# Altium schematic symbol library B-NT_CONNECT.SchLib: 107 symbols (part 1 of 2)
Pins are listed as number, name and electrical type; pins without a type are passive.

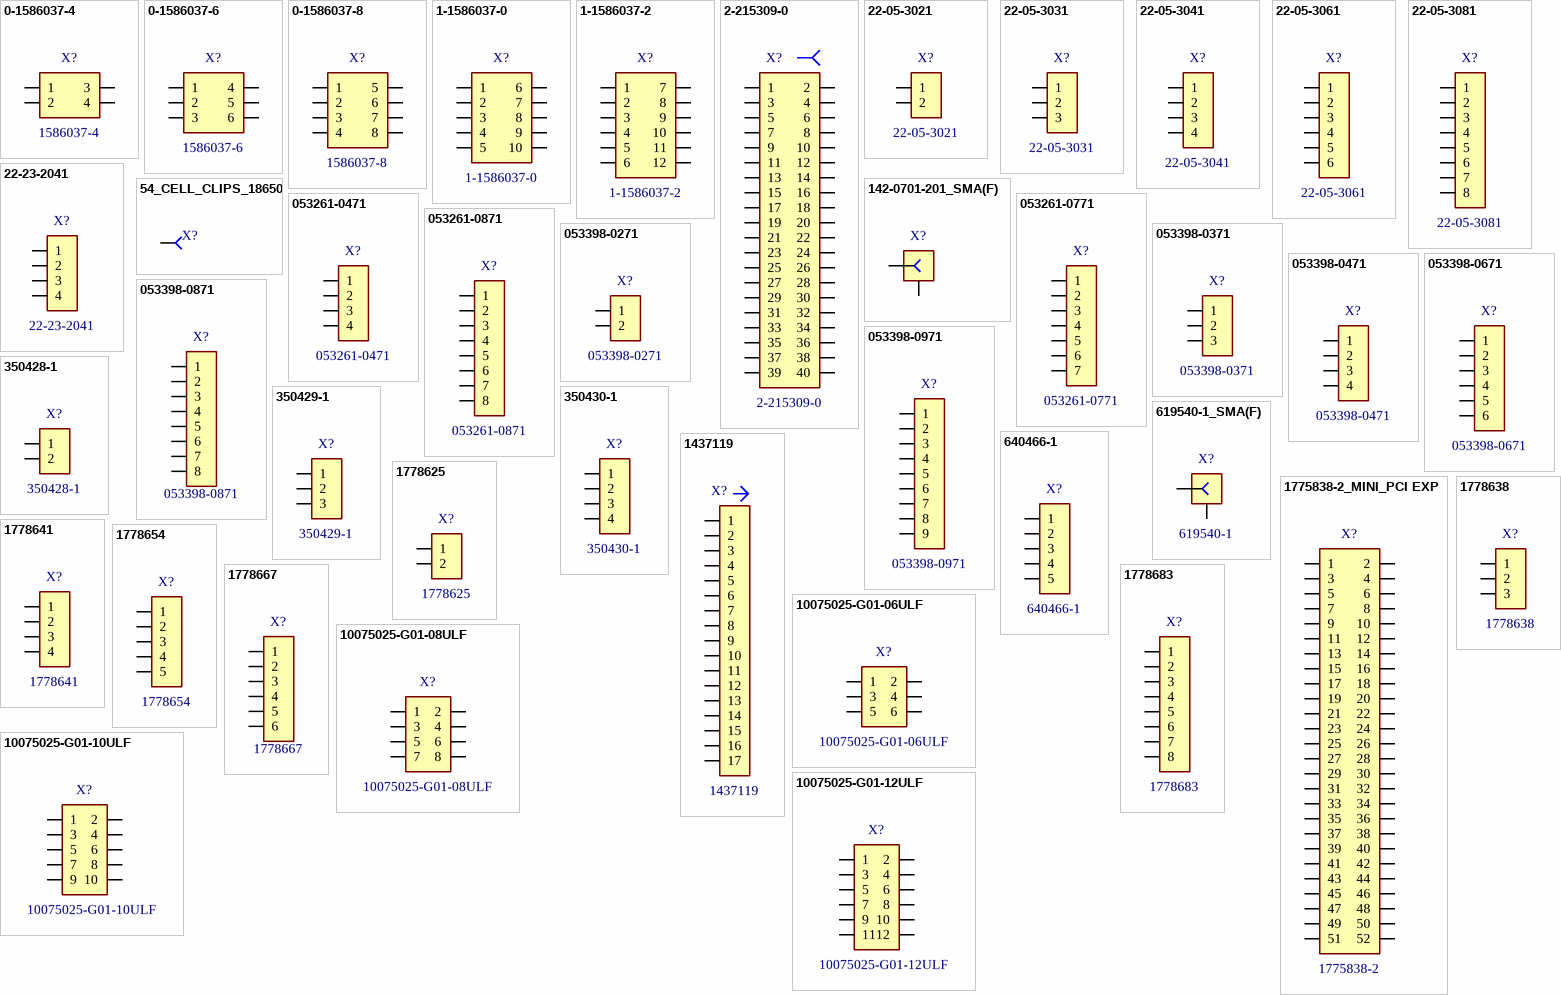
[diagram p0: symbols 0-1586037-4 to 10075025-G01-12ULF]

## 0-1586037-4
designator X?  value 1586037-4
TE HEADER 4POS VERT W/O PEGS; ValueManufacturer: TE Connectivity AMP Connectors; TechSpec: Шаг 4.2; ValueDescription: 1586037-4 Двухрядная вилка TE Connectivity AMP Connectors  9.75х9.6mm  Шаг 4.2; ValueType: Connector; Price: 0.56; ComponentLink1Description: TE Datasheet; ComponentLink1URL: http://www.te.com/commerce/DocumentDelivery/DDEController?Action=srchrtrv&DocNm=1586037&DocType=Customer+Drawing&DocLang=English; Package: 9.75х9.6mm; ValueManufacturerPartNumber: 1586037-4; Operating Temperature: -40°C ~ 105°C; CheckDate: SC 22.01.17
footprint 0-1586037-4
pins: 1, 2, 3, 4

## 0-1586037-6
designator X?  value 1586037-6
TE HEADER 6POS VERT W/O PEGS; ValueManufacturer: TE Connectivity AMP Connectors; TechSpec: Шаг 4.2; ValueDescription: 1586037-6 Двухрядная вилка TE Connectivity AMP Connectors  9.75х13.8mm  Шаг 4.2; ValueType: Connector; Price: 0.59; ComponentLink1Description: TE Datasheet; ComponentLink1URL: http://www.te.com/commerce/DocumentDelivery/DDEController?Action=srchrtrv&DocNm=1586037&DocType=Customer+Drawing&DocLang=English; Package: 9.75х13.8mm; ValueManufacturerPartNumber: 1586037-6; Operating Temperature: -40°C ~ 105°C; CheckDate: SC 22.01.17
footprint 0-1586037-6
pins: 1, 2, 3, 4, 5, 6

## 0-1586037-8
designator X?  value 1586037-8
TE HEADER 8POS VERT W/O PEGS; ValueManufacturer: TE Connectivity AMP Connectors; TechSpec: Шаг 4.2; ValueDescription: 1586037-8 Двухрядная вилка TE Connectivity AMP Connectors  9.75х18.0mm  Шаг 4.2; ValueType: Connector; Price: 0.71; ComponentLink1Description: TE Datasheet; ComponentLink1URL: http://www.te.com/commerce/DocumentDelivery/DDEController?Action=srchrtrv&DocNm=1586037&DocType=Customer+Drawing&DocLang=English; Package: 9.75х18.0mm; ValueManufacturerPartNumber: 1586037-8; Operating Temperature: -40°C ~ 105°C; CheckDate: SC 22.01.17
footprint 0-1586037-8
pins: 1, 2, 3, 4, 5, 6, 7, 8

## 1-1586037-0
designator X?  value 1-1586037-0
TE HEADER 10POS VERT W/O PEGS; ValueManufacturer: TE Connectivity AMP Connectors; TechSpec: Шаг 4.2; ValueDescription: 1-1586037-0 Двухрядная вилка TE Connectivity AMP Connectors  9.75х22.2mm  Шаг 4.2; ValueType: Connector; Price: 0.79; ComponentLink1Description: TE Datasheet; ComponentLink1URL: http://www.te.com/commerce/DocumentDelivery/DDEController?Action=srchrtrv&DocNm=1586037&DocType=Customer+Drawing&DocLang=English; Package: 9.75х22.2mm; ValueManufacturerPartNumber: 1-1586037-0; Operating Temperature: -40°C ~ 105°C; CheckDate: SC 22.01.17
footprint 0-1586037-10
pins: 1, 2, 3, 4, 5, 6, 7, 8, 9, 10

## 1-1586037-2
designator X?  value 1-1586037-2
TE HEADER 12POS VERT W/O PEGS; ValueManufacturer: TE Connectivity AMP Connectors; TechSpec: Шаг 4.2; ValueDescription: 1-1586037-2 Двухрядная вилка TE Connectivity AMP Connectors  9.75х26.4mm  Шаг 4.2; ValueType: Connector; Price: 0.94; ComponentLink1Description: TE Datasheet; ComponentLink1URL: http://www.te.com/commerce/DocumentDelivery/DDEController?Action=srchrtrv&DocNm=1586037&DocType=Customer+Drawing&DocLang=English; Package: 9.75х26.4mm; ValueManufacturerPartNumber: 1-1586037-2; Operating Temperature: -40°C ~ 105°C; CheckDate: SC 22.01.17
footprint 0-1586037-12
pins: 1, 2, 3, 4, 5, 6, 7, 8, 9, 10, 11, 12

## 2-215309-0
designator X?  value 2-215309-0
CONN 40POS FEMALE 2.54 PCB; ValueManufacturer: TE Connectivity AMP Connectors; TechSpec: Шаг 2.54; ValueDescription: 2-215309-0 Двухрядная розетка TE Connectivity AMP Connectors  5.06х50.8mm  Шаг 2.54; ValueType: Connector; Price: 6; ComponentLink1Description: TE Connectivity AMP Connectors  Datasheet; ComponentLink1URL: http://www.te.com/commerce/DocumentDelivery/DDEController?Action=srchrtrv&DocNm=215309&DocType=Customer+Drawing&DocLang=English; Package: 5.06х50.8mm; ValueManufacturerPartNumber: 2-215309-0; CheckDate: SC *
footprint 2-215309-0 (Body 5.06x50.8)
pins: 1, 2, 3, 4, 5, 6, 7, 8, 9, 10, 11, 12, 13, 14, 15, 16, 17, 18, 19, 20, 21, 22, 23, 24, 25, 26, 27, 28, 29, 30, 31, 32, 33, 34, 35, 36, 37, 38, 39, 40
1 alternate drawing of the same symbol

## 22-05-3021
designator X?  value 22-05-3021
TE CONN HEADER 2 POS; ValueManufacturer: Molex LLC; TechSpec: Шаг 2.54; ValueDescription: 22-05-3021 Вилка Molex LLC  5x13mm  Шаг 2.54; ValueType: Connector; Price: 0.32; ComponentLink1Description: Molex LLC Datasheet; ComponentLink1URL: http://www.molex.com/pdm_docs/sd/022053041_sd.pdf; Package: 5x13mm; ValueManufacturerPartNumber: 22-05-3021; CheckDate: SC *
footprint 22-05-3021
pins: 1, 2
1 alternate drawing of the same symbol

## 22-05-3031
designator X?  value 22-05-3031
TE CONN HEADER 3 POS; ValueManufacturer: Molex LLC; TechSpec: Шаг 2.54; ValueDescription: 22-05-3031 Вилка Molex LLC  7.5x13mm  Шаг 2.54; ValueType: Connector; Price: 0.44; ComponentLink1Description: Molex LLC Datasheet; ComponentLink1URL: http://www.molex.com/pdm_docs/sd/022053041_sd.pdf; Package: 7.5x13mm; ValueManufacturerPartNumber: 22-05-3031; CheckDate: SC *
footprint 22-05-3031
pins: 1, 2, 3

## 22-05-3041
designator X?  value 22-05-3041
TE CONN HEADER 4 POS; ValueManufacturer: Molex LLC; TechSpec: Шаг 2.54; ValueDescription: 22-05-3041 Вилка Molex LLC  10x13mm  Шаг 2.54; ValueType: Connector; Price: 0.49; ComponentLink1Description: Molex LLC Datasheet; ComponentLink1URL: http://www.molex.com/pdm_docs/sd/022053041_sd.pdf; Package: 10x13mm; ValueManufacturerPartNumber: 22-05-3041; CheckDate: SC 12.03.17
footprint 22-05-3041
pins: 1, 2, 3, 4

## 22-05-3061
designator X?  value 22-05-3061
TE CONN HEADER 6 POS; ValueManufacturer: Molex LLC; TechSpec: Шаг 2.54; ValueDescription: 22-05-3061 Вилка Molex LLC  15x13mm  Шаг 2.54; ValueType: Connector; Price: 0.65; ComponentLink1Description: Molex LLC Datasheet; ComponentLink1URL: http://www.molex.com/pdm_docs/sd/022053041_sd.pdf; Package: 15x13mm; ValueManufacturerPartNumber: 22-05-3061; CheckDate: SC *
footprint 22-05-3061
pins: 1, 2, 3, 4, 5, 6

## 22-05-3081
designator X?  value 22-05-3081
TE CONN HEADER 8 POS; ValueManufacturer: Molex LLC; TechSpec: Шаг 2.54; ValueDescription: 22-05-3081 Вилка Molex LLC  20x13mm  Шаг 2.54; ValueType: Connector; Price: 0.83; ComponentLink1Description: Molex LLC Datasheet; ComponentLink1URL: http://www.molex.com/pdm_docs/sd/022053041_sd.pdf; Package: 20x13mm; ValueManufacturerPartNumber: 22-05-3081; CheckDate: SC *
footprint 22-05-3081
pins: 1, 2, 3, 4, 5, 6, 7, 8

## 22-23-2041
designator X?  value 22-23-2041
TE CONN HEADER 4POS .100 VERT TIN; ValueManufacturer: Molex LLC; TechSpec: Шаг 2.54; ValueDescription: 22-23-2041 Вилка Molex LLC  10x6.3mm  Шаг 2.54; ValueType: Connector; Price: 0.27; ComponentLink1Description: Molex LLC Datasheet; ComponentLink1URL: https://www.molex.com/pdm_docs/sd/022232041_sd.pdf; Package: 10x6.3mm; ValueManufacturerPartNumber: 22-23-2041; CheckDate: SC *
footprint 22-23-2041 (Footprint not found)
pins: 1, 2, 3, 4

## 54_CELL_CLIPS_18650
designator X?  (no BOM)
18650 CELL BATTERY CLIP 18MM; ValueManufacturer: Keystone Electronics; ValueManufacturerPartNumber: 54; ValueDescription: 54 Держатель батареи 18650; Price: 0.67; ComponentLink1Description: Keystone Electronics Datasheet; ComponentLink1URL: http://www.keyelco.com/product-pdf.cfm?p=826; ValueType: BATTERY CLIP; CheckDate: SC 24.10.17; Value: BATTERY CLIP
footprint 54_BATTERY_CLIP_18650
pins: 1

## 142-0701-201_SMA(F)
designator X?
CONN SMA JACK STR 50 OHM PCB; ValueManufacturer: Cinch Connectivity Solutions Johnson; ValueManufacturerPartNumber: 142-0701-201; TechSpec: MAX 18GHz; ValueDescription: 142-0701-201 Разьем на плату    SMA FEMALE SOCKET  MAX 18GHz; ValueType: SMA FEMALE CONNECTOR; Value: 142-0701-201; Price: 2.79; ComponentLink1Description: Cinch Connectivity Datasheet; ComponentLink1URL: https://belfuse.com/resources/Johnson/drawings/dr-1420701201.pdf; Package: SMA FEMALE SOCKET; Operating Temperature: -65°C~165°C; CheckDate: SC *
footprint 142-0701-201_SMA_PCB (SMA CONN PCB CINCH 142-0701-201)
pins: 1, 2
1 alternate drawing of the same symbol

## 053261-0471
designator X?  value 053261-0471
TE CONN HEADER 4 POS R/A SMD; ValueManufacturer: Molex LLC; TechSpec: Шаг 1.25; ValueDescription: 053261-0471 Вилка Molex LLC    Шаг 1.25; ValueType: Connector; Price: 1.18; ComponentLink1Description: Molex LLC Datasheet; ComponentLink1URL: http://www.molex.com/pdm_docs/sd/532610471_sd.pdf; ValueManufacturerPartNumber: 053261-0471; CheckDate: SC *
footprint 053261-0471
pins: 1, 2, 3, 4

## 053261-0771
designator X?  value 053261-0771
TE CONN HEADER 7 POS R/A SMD; ValueManufacturer: Molex LLC; TechSpec: Шаг 1.25; ValueDescription: 053261-0771 Вилка Molex LLC  14.7x4.2mm  Шаг 1.25; ValueType: Connector; Price: 1.58; ComponentLink1Description: Molex LLC Datasheet; ComponentLink1URL: http://www.molex.com/pdm_docs/sd/532610771_sd.pdf; Package: 14.7x4.2mm; ValueManufacturerPartNumber: 053261-0771; CheckDate: SC *
footprint 053261-0771
pins: 1, 2, 3, 4, 5, 6, 7

## 053261-0871
designator X?  value 053261-0871
TE CONN HEADER 8 POS R/A SMD; ValueManufacturer: Molex LLC; TechSpec: Шаг 1.25; ValueDescription: 053261-0871 Вилка Molex LLC  15.15x4.2mm  Шаг 1.25; ValueType: Connector; Price: 1.56; ComponentLink1Description: Molex LLC Datasheet; ComponentLink1URL: http://www.molex.com/pdm_docs/sd/532610771_sd.pdf; Package: 15.15x4.2mm; ValueManufacturerPartNumber: 053261-0871; CheckDate: SC *
footprint 053261-0871
pins: 1, 2, 3, 4, 5, 6, 7, 8

## 053398-0271
designator X?  value 053398-0271
TE CONN HEADER 4 POS VERT SMD; ValueManufacturer: Molex LLC; TechSpec: Шаг 1.25; ValueDescription: 053398-0271 Вилка Molex LLC    Шаг 1.25; ValueType: Connector; Price: 1.07; ComponentLink1Description: Molex LLC Datasheet; ComponentLink1URL: http://www.molex.com/pdm_docs/sd/533980671_sd.pdf; ValueManufacturerPartNumber: 053398-0271; CheckDate: SC *
footprint 053398-0271
pins: 1, 2
1 alternate drawing of the same symbol

## 053398-0371
designator X?  value 053398-0371
TE CONN HEADER 3 POS VERT SMD; ValueManufacturer: Molex LLC; TechSpec: Шаг 1.25; ValueDescription: 053398-0371 Вилка Molex LLC    Шаг 1.25; ValueType: Connector; Price: 1.30; ComponentLink1Description: Molex LLC Datasheet; ComponentLink1URL: http://www.molex.com/pdm_docs/sd/533980371_sd.pdf; ValueManufacturerPartNumber: 053398-0371; CheckDate: SC *
footprint 053398-0371
pins: 1, 2, 3

## 053398-0471
designator X?  value 053398-0471
TE CONN HEADER 4 POS VERT SMD; ValueManufacturer: Molex LLC; TechSpec: Шаг 1.25; ValueDescription: 053398-0471 Вилка Molex LLC    Шаг 1.25; ValueType: Connector; Price: 1.19; ComponentLink1Description: Molex LLC Datasheet; ComponentLink1URL: http://www.molex.com/pdm_docs/sd/533980671_sd.pdf; ValueManufacturerPartNumber: 053398-0471; CheckDate: SC *
footprint 053398-0471
pins: 1, 2, 3, 4

## 053398-0671
designator X?  value 053398-0671
TE CONN HEADER 6 POS VERT SMD; ValueManufacturer: Molex LLC; TechSpec: Шаг 1.25; ValueDescription: 053398-0671 Вилка Molex LLC  12.25x4.2mm  Шаг 1.25; ValueType: Connector; Price: 1.42; ComponentLink1Description: Molex LLC Datasheet; ComponentLink1URL: http://www.molex.com/pdm_docs/sd/533980671_sd.pdf; Package: 12.25x4.2mm; ValueManufacturerPartNumber: 053398-0671; CheckDate: SC 12.03.17
footprint 053398-0671
pins: 1, 2, 3, 4, 5, 6

## 053398-0871
designator X?  value 053398-0871
TE CONN HEADER 8POS VERT SMD; ValueManufacturer: Molex LLC; ValueManufacturerPartNumber: 0533980871; TechSpec: Шаг 1.25; ValueDescription: 053398-0871 Вилка Molex LLC  14.75x4.3mm  Шаг 1.25; ValueType: Connector; Price: 1.64; ComponentLink1Description: Molex LLC Datasheet; ComponentLink1URL: http://www.molex.com/pdm_docs/sd/533980871_sd.pdf; Package: 14.75x4.3mm; CheckDate: SC *
footprint 053398-0871 (CONN HEADER 8POS 1.25MM VERT SMD)
pins: 1, 2, 3, 4, 5, 6, 7, 8

## 053398-0971
designator X?  value 053398-0971
TE CONN HEADER 9 POS VERT SMD; ValueManufacturer: Molex LLC; TechSpec: Шаг 1.25; ValueDescription: 053398-0971 Вилка Molex LLC  16x4.3mm  Шаг 1.25; ValueType: Connector; Price: 1.64; ComponentLink1Description: Molex LLC Datasheet; ComponentLink1URL: http://www.molex.com/pdm_docs/sd/533980971_sd.pdf; Package: 16x4.3mm; ValueManufacturerPartNumber: 053398-0971; CheckDate: SC 12.03.17
footprint 053398-0971
pins: 1, 2, 3, 4, 5, 6, 7, 8, 9

## 350428-1
designator X?  value 350428-1
TE CONN HEADER 2 POS; ValueManufacturer: TE Connectivity AMP Connectors; TechSpec: Шаг 6.35; ValueDescription: 350428-1 Вилка TE Connectivity AMP Connectors  13.97х7.62mm  Шаг 6.35; ValueType: Connector; Price: 0.43; ComponentLink1Description: TE Datasheet; ComponentLink1URL: http://www.te.com/commerce/DocumentDelivery/DDEController?; Package: 13.97х7.62mm; ValueManufacturerPartNumber: 350428-1; CheckDate: SC 15.01.17
footprint 350428-1
pins: 1, 2
1 alternate drawing of the same symbol

## 350429-1
designator X?  value 350429-1
TE CONN HEADER 3 POS; ValueManufacturer: TE Connectivity AMP Connectors; TechSpec: Шаг 6.35; ValueDescription: 350429-1 Вилка TE Connectivity AMP Connectors  20.32х7.62mm  Шаг 6.35; ValueType: Connector; Price: 0.55; ComponentLink1Description: TE Datasheet; ComponentLink1URL: http://www.te.com/commerce/DocumentDelivery/DDEController?Action=srchrtrv&DocNm=350429&DocType=Customer+Drawing&DocLang=English; Package: 20.32х7.62mm; ValueManufacturerPartNumber: 350429-1; CheckDate: SC 15.01.17
footprint 350429-1
pins: 1, 2, 3

## 350430-1
designator X?  value 350430-1
TE CONN HEADER 4 POS; ValueManufacturer: TE Connectivity AMP Connectors; TechSpec: Шаг 6.35; ValueDescription: 350430-1 Вилка TE Connectivity AMP Connectors  26.67x7.62mm  Шаг 6.35; ValueType: Connector; Price: 0.71; ComponentLink1Description: TE Datasheet; ComponentLink1URL: http://www.te.com/commerce/DocumentDelivery/DDEController?Action=srchrtrv&DocNm=350430&DocType=Customer+Drawing&DocLang=English; Package: 26.67x7.62mm; ValueManufacturerPartNumber: 350430-1; CheckDate: SC 15.01.17
footprint 350430-1
pins: 1, 2, 3, 4

## 619540-1_SMA(F)
designator X?  value 619540-1
SMA CONN JACK R/A FEMALE 50 OHM PCB; ValueManufacturer: TE Connectivity AMP; TechSpec: MAX 3GHz; ValueDescription: 619540-1 Разьем на плату    SMA FEMALE SOCKET  MAX 3GHz; ValueType: SMA FEMALE CONNECTOR; Price: 2.55; ComponentLink1Description: TE Connectivity AMP Datasheet; ComponentLink1URL: http://www.te.com/commerce/DocumentDelivery/DDEController?Action=srchrtrv&DocNm=619540&DocType=Customer+Drawing&DocLang=English; Package: SMA FEMALE SOCKET; ValueManufacturerPartNumber: 619540-1; Operating Temperature: -55°C~85°C; CheckDate: SC 29.10.17
footprint 619540-1_SMA_PCB (SMA CONN PCB TE 619540-1)
pins: 1, 2
1 alternate drawing of the same symbol

## 640466-1
designator X?  value 640466-1
TE CONN HEADER 2 POS; ValueManufacturer: TE Connectivity AMP Connectors; TechSpec: Шаг 6.35; ValueDescription: 640466-1 Вилка TE Connectivity AMP Connectors  33.02x7.62mm  Шаг 6.35; ValueType: Connector; Price: 0.94; ComponentLink1Description: TE Datasheet; ComponentLink1URL: http://www.te.com/commerce/DocumentDelivery/DDEController?Action=srchrtrv&DocNm=640466&DocType=Customer+Drawing&DocLang=English; Package: 33.02x7.62mm; ValueManufacturerPartNumber: 640466-1; CheckDate: SC 15.01.17
footprint 640466-1
pins: 1, 2, 3, 4, 5

## 1437119
designator X?  value 1437119
CONN PLUG MALE 17POS GOLD SOLDER; ValueManufacturer: Phoenix Contact; PowerVoltage: 30V; TechSpec: 1.5A; ValueDescription: 1437119 Вилка Phoenix Contact  SACC-DSI-MS-17CON-M12 SCO SH  1.5A; ValueType: Circular Connector; Price: 39,66 €; ComponentLink1Description: Phoenix Contact Datasheet; ComponentLink1URL: https://media.digikey.com/pdf/Data%20Sheets/Phoenix%20Contact%20PDFs/1437119_Dwg.pdf; Package: SACC-DSI-MS-17CON-M12 SCO SH; ValueManufacturerPartNumber: 1437119; Operating Temperature: -25°C ~ 85°C; CheckDate: SC *
footprint 1437119_Phoenix (CONN PLUG MALE 17POS GOLD SOLDER)
pins: 1, 2, 3, 4, 5, 6, 7, 8, 9, 10, 11, 12, 13, 14, 15, 16, 17

## 1775838-2_MINI_PCI EXP
designator X?  value 1775838-2
PCI EXP MINI FEMALE 52POS; ValueManufacturer: TE Connectivity AMP Connectors; TechSpec: Шаг 0.80mm; ValueDescription: 1775838-2 Гнездо на плату Mini PCI Express TE Connectivity AMP Connectors  25.0x9.8mm  Шаг 0.80mm; ValueType: Connector; Price: 0.82; ComponentLink1Description: TE Connectivity Datasheet; ComponentLink1URL: http://www.te.com/commerce/DocumentDelivery/DDEController?Action=srchrtrv&DocNm=1775838&DocType=Customer+Drawing&DocLang=English; Package: 25.0x9.8mm; ValueManufacturerPartNumber: 1775838-2; CheckDate: SC 23.10.17
footprint 1775838-2_mini_pci-e
pins: 1, 2, 3, 4, 5, 6, 7, 8, 9, 10, 11, 12, 13, 14, 15, 16, 17, 18, 19, 20, 21, 22, 23, 24, 25, 26, 27, 28, 29, 30, 31, 32, 33, 34, 35, 36, 37, 38, 39, 40, 41, 42, 43, 44, 45, 46, 47, 48, 49, 50, 51, 52

## 1778625
designator X?  value 1778625
TERM BLOCK HDR 2POS 90DEG 2.5MM 6A 160V; ValueManufacturer: Phoenix Contact; TechSpec: Шаг 2.5; ValueDescription: 1778625 Вилка Phoenix Contact  6.7x7.5mm  Шаг 2.5; ValueType: Connector; Price: 0.39; ComponentLink1Description: Phoenix Contact Datasheet; ComponentLink1URL: http://media.digikey.com/PDF/Data%20Sheets/Phoenix%20Contact%20PDFs/1778638.pdf; Package: 6.7x7.5mm; ValueManufacturerPartNumber: 1778625; CheckDate: SC *
footprint 1778625
pins: 1, 2
1 alternate drawing of the same symbol

## 1778638
designator X?  value 1778638
TERM BLOCK HDR 3POS 90DEG 2.5MM 6A 160V; ValueManufacturer: Phoenix Contact; TechSpec: Шаг 2.5; ValueDescription: 1778638 Вилка Phoenix Contact  9.2x7.5mm  Шаг 2.5; ValueType: Connector; Price: 0.64; ComponentLink1Description: Phoenix Contact Datasheet; ComponentLink1URL: http://media.digikey.com/PDF/Data%20Sheets/Phoenix%20Contact%20PDFs/1778638.pdf; Package: 9.2x7.5mm; ValueManufacturerPartNumber: 1778638; CheckDate: SC 22.03.17
footprint 1778638
pins: 1, 2, 3

## 1778641
designator X?  value 1778641
TERM BLOCK HDR 4POS 90DEG 2.5MM 6A 160V; ValueManufacturer: Phoenix Contact; TechSpec: Шаг 2.5; ValueDescription: 1778641 Вилка Phoenix Contact  11.7x7.5mm  Шаг 2.5; ValueType: Connector; Price: 0.85; ComponentLink1Description: Phoenix Contact Datasheet; ComponentLink1URL: http://media.digikey.com/PDF/Data%20Sheets/Phoenix%20Contact%20PDFs/1778641.pdf; Package: 11.7x7.5mm; ValueManufacturerPartNumber: 1778641; CheckDate: SC 22.03.17
footprint 1778641
pins: 1, 2, 3, 4

## 1778654
designator X?  value 1778654
TERM BLOCK HDR 5POS 90DEG 2.5MM 6A 160V; ValueManufacturer: Phoenix Contact; TechSpec: Шаг 2.5; ValueDescription: 1778654 Вилка Phoenix Contact  14.2x7.5mm  Шаг 2.5; ValueType: Connector; Price: 1.05; ComponentLink1Description: Phoenix Contact Datasheet; ComponentLink1URL: http://media.digikey.com/PDF/Data%20Sheets/Phoenix%20Contact%20PDFs/1778654.pdf; Package: 14.2x7.5mm; ValueManufacturerPartNumber: 1778654; CheckDate: SC 22.03.17
footprint 1778654
pins: 1, 2, 3, 4, 5

## 1778667
designator X?  value 1778667
TERM BLOCK HDR 6POS 90DEG 2.5MM 6A 160V; ValueManufacturer: Phoenix Contact; TechSpec: Шаг 2.5; ValueDescription: 1778667 Вилка Phoenix Contact  16.7x7.5mm  Шаг 2.5; ValueType: Connector; Price: 1.26; ComponentLink1Description: Phoenix Contact Datasheet; ComponentLink1URL: http://media.digikey.com/PDF/Data%20Sheets/Phoenix%20Contact%20PDFs/1778667.pdf; Package: 16.7x7.5mm; ValueManufacturerPartNumber: 1778667; CheckDate: SC 22.03.17
footprint 1778667
pins: 1, 2, 3, 4, 5, 6

## 1778683
designator X?  value 1778683
TERM BLOCK HDR 8POS 90DEG 2.5MM 6A 160V; ValueManufacturer: Phoenix Contact; TechSpec: Шаг 2.5; ValueDescription: 1778683 Вилка Phoenix Contact  21.7x7.5mm  Шаг 2.5; ValueType: Connector; Price: 1.26; ComponentLink1Description: Phoenix Contact Datasheet; ComponentLink1URL: http://media.digikey.com/PDF/Data%20Sheets/Phoenix%20Contact%20PDFs/1778667.pdf; Package: 21.7x7.5mm; ValueManufacturerPartNumber: 1778683; CheckDate: SC *
footprint 1778683
pins: 1, 2, 3, 4, 5, 6, 7, 8

## 10075025-G01-06ULF
designator X?  value 10075025-G01-06ULF
CONN HEADER 6POS DL STR 2MM GOLD PCB; ValueManufacturer: Amphenol FCI; TechSpec: Шаг 2.0; ValueDescription: 10075025-G01-06ULF Двухрядная вилка Amphenol FCI  7х13.4mm  Шаг 2.0; ValueType: Connector; Price: 1.15; ComponentLink1Description: Amphenol Datasheet; ComponentLink1URL: http://portal.fciconnect.com/Comergent//fci/drawing/10075025.pdf; Package: 7х13.4mm; ValueManufacturerPartNumber: 10075025-G01-06ULF; CheckDate: SC *
footprint 10075025-G01-06LF
pins: 1, 2, 3, 4, 5, 6

## 10075025-G01-08ULF
designator X?  value 10075025-G01-08ULF
CONN HEADER 8PS DL STR 2MM GOLD PCB; ValueManufacturer: Amphenol FCI; TechSpec: Шаг 2.0; ValueDescription: 10075025-G01-08ULF Двухрядная вилка Amphenol FCI  7х15.4mm  Шаг 2.0; ValueType: Connector; Price: 0.86; ComponentLink1Description: Amphenol Datasheet; ComponentLink1URL: http://portal.fciconnect.com/Comergent//fci/drawing/10075025.pdf; Package: 7х15.4mm; ValueManufacturerPartNumber: 10075025-G01-08ULF; CheckDate: *
footprint 10075025-G01-08LF
pins: 1, 2, 3, 4, 5, 6, 7, 8

## 10075025-G01-10ULF
designator X?  value 10075025-G01-10ULF
CONN HEADER 10PS DL STR 2MM GOLD PCB; ValueManufacturer: Amphenol FCI; TechSpec: Шаг 2.0; ValueDescription: 10075025-G01-10ULF Двухрядная вилка Amphenol FCI  7х12.25mm  Шаг 2.0; ValueType: Connector; Price: 1.15; ComponentLink1Description: Amphenol Datasheet; ComponentLink1URL: http://portal.fciconnect.com/Comergent//fci/drawing/10075025.pdf; Package: 7х12.25mm; ValueManufacturerPartNumber: 10075025-G01-10ULF; CheckDate: SC *
footprint 10075025-G01-10LF
pins: 1, 2, 3, 4, 5, 6, 7, 8, 9, 10

## 10075025-G01-12ULF
designator X?  value 10075025-G01-12ULF
CONN HEADER 12PS DL STR 2MM GOLD PCB; ValueManufacturer: Amphenol FCI; TechSpec: Шаг 2.0; ValueDescription: 10075025-G01-12ULF Двухрядная вилка Amphenol FCI  7х14.25mm  Шаг 2.0; ValueType: Connector; Price: 1.35; ComponentLink1Description: Amphenol Datasheet; ComponentLink1URL: http://portal.fciconnect.com/Comergent//fci/drawing/10075025.pdf; Package: 7х14.25mm; ValueManufacturerPartNumber: 10075025-G01-12ULF; CheckDate: SC *
footprint 10075025-G01-12LF
pins: 1, 2, 3, 4, 5, 6, 7, 8, 9, 10, 11, 12

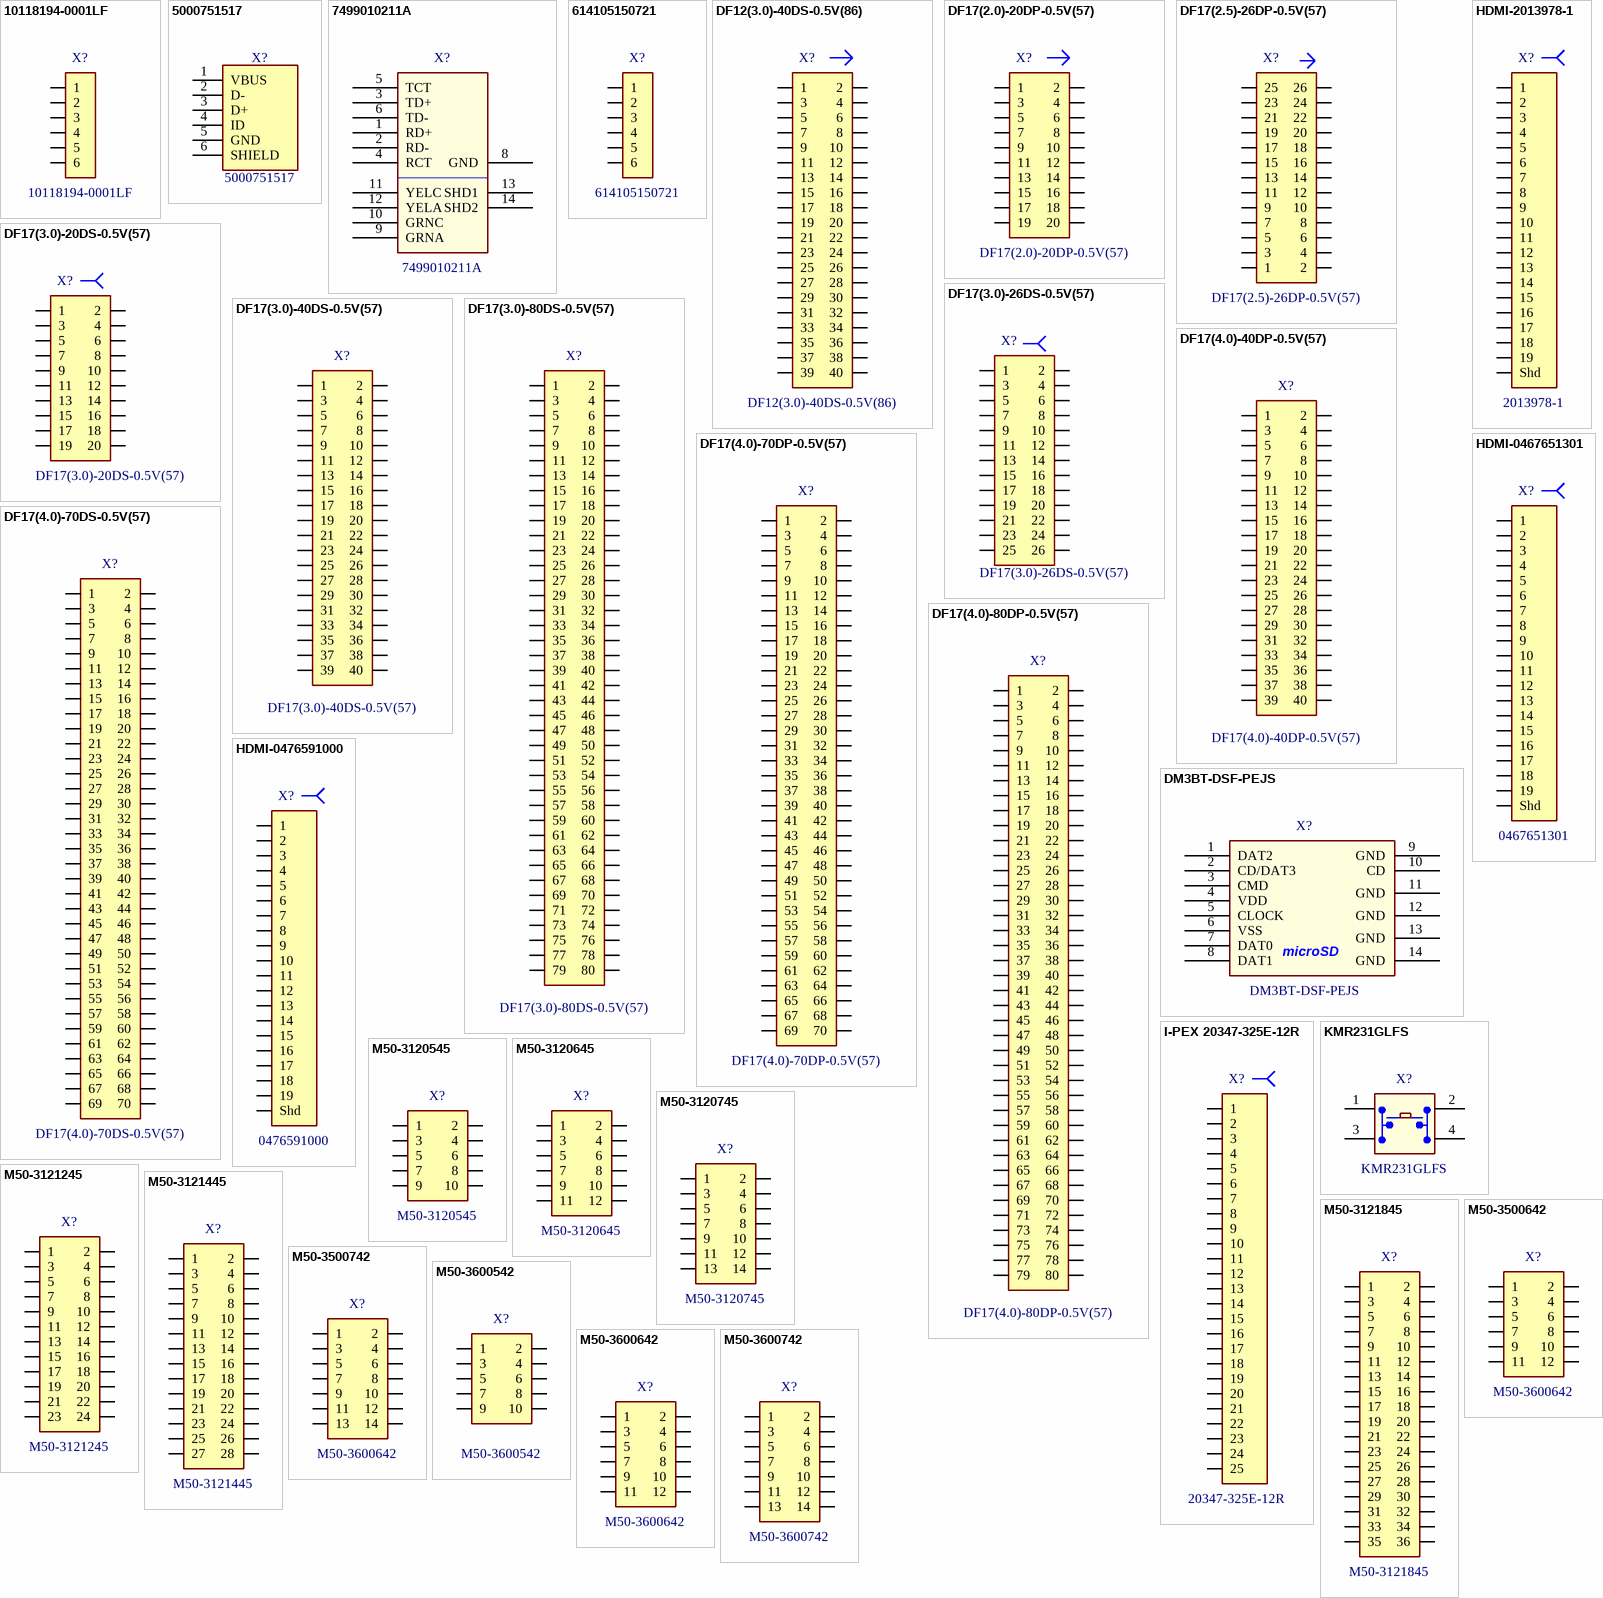
[diagram p1: symbols 10118194-0001LF to M50-3600742]

## 10118194-0001LF
designator X?  value 10118194-0001LF
CONN USB MICRO B RECPT SMD R/A; ValueManufacturer: Amphenol FCI; PowerVoltage: 100 VAC; TechSpec: USB 2.0 - micro B; ValueDescription: 10118194-0001LF microUSB розетка Amphenol FCI  8.05x5mm  USB 2.0 - micro B; ValueType: Connector; Price: 0.46; ComponentLink1Description: Amphenol Datasheet; ComponentLink1URL: http://portal.fciconnect.com/Comergent//fci/drawing/10118194.pdf; Package: 8.05x5mm; ValueManufacturerPartNumber: 10118194-0001LF; Operating Temperature: -30°C ~ 80°C; CheckDate: SC *
footprint 10118194-0001LF (Footprint not found)
pins: 1, 2, 3, 4, 5, 6

## 5000751517
designator X?  value 5000751517
CONN RECEPT USB 5POS VERT PCB; ValueManufacturer: Molex, LLC; PowerVoltage: 30В; TechSpec: USB 2.0; ValueDescription: 5000751517 USB розетка Molex, LLC  7.7x3.9  USB 2.0; ValueType: Connector; Price: 4.33; ComponentLink1Description: Molex  Datasheet; ComponentLink1URL: http://www.molex.com/pdm_docs/sd/5000751517_sd.pdf; Package: 7.7x3.9; ValueManufacturerPartNumber: 5000751517; Operating Temperature: -40°C ~ 85°C; CheckDate: SC *
footprint USB- 5- mini B (USB - mini B USB 2.0 OTG Receptacle Connector 5 Position Through Hole)
pins: 1 VBUS, 2 D-, 3 D+, 4 ID, 5 GND, 6 SHIELD

## 7499010211A
designator X?  value 7499010211A
CONN MAGJACK 1PORT 100 BASE-T R/A PCB; ValueManufacturer: Wurth Electronics Inc. Connectors; TechSpec: Heigh - 13.5mm; ValueDescription: 7499010211A Ethernet розетка Wurth Electronics Inc. Connectors  21.8x15.9  Heigh - 13.5mm; ValueType: Connector; Price: 8.61; ComponentLink1Description: Wurth Electronics Datasheet; ComponentLink1URL: http://katalog.we-online.de/pbs/datasheet/7499010211A.pdf; Package: 21.8x15.9; ValueManufacturerPartNumber: 7499010211A; Operating Temperature: 0°C ~ 70°C; CheckDate: SC *
footprint 7499010211A_Ethetnet
pins: 1 RD+, 2 RD-, 3 TD+, 4 RCT, 5 TCT, 6 TD-, 8 GND, 9 GRNA, 10 GRNC, 11 YELC, 12 YELA, 13 SHD1, 14 SHD2

## 614105150721
designator X?  value 614105150721
CONN RCPT USB TYPE B; ValueManufacturer: Wurth Electronics Inc.; PowerVoltage: 30VAC; TechSpec: USB 2.0 - micro B; ValueDescription: 614105150721 microUSB розетка Wurth Electronics Inc.  7.15x2.9mm  USB 2.0 - micro B; ValueType: Connector; Price: 2.12; Package: 7.15x2.9mm; ValueManufacturerPartNumber: 614105150721; Operating Temperature: -40°C ~ 85°C; CheckDate: SC *; ComponentLink1Description: Wurth Electronics Inc. Datasheet; ComponentLink1URL: http://katalog.we-online.de/em/datasheet/614105150721.pdf
footprint 614105150721_micro_USB_vertical
pins: 1, 2, 3, 4, 5, 6

## DF12(3.0)-40DS-0.5V(86)
designator X?  value DF12(3.0)-40DS-0.5V(86)
CONN RECEPT 40POS 3MM SMD 0.5MM; ValueManufacturer: Hirose Electric Co Ltd; PowerVoltage: 0.3A 50V; TechSpec: Шаг 0.5, 0,3A; ValueDescription: DF12(3.0)-40DS-0.5V(86) Двухрядная вилка Hirose Electric Co Ltd  13.1x4.6mm  Шаг 0.5, 0,3A; ValueType: Connector; Price: 1.44; Package: 13.1x4.6mm; ValueManufacturerPartNumber: DF12(3.0)-40DS-0.5V(86); Operating Temperature: -35 to 85 ℃; CheckDate: SC *; ComponentLink1Description: Hirose Electric Datasheet; ComponentLink1URL: https://www.hirose.com/product/download/?distributor=digikey&type=2d&lang=en&num=DF12(3.0)-40DS-0.5V(86)
footprint DF12(3.0)-40DS-0.5V (CONN RECEPT 40POS 3MM SMD 0.5MM)
pins: 1, 2, 3, 4, 5, 6, 7, 8, 9, 10, 11, 12, 13, 14, 15, 16, 17, 18, 19, 20, 21, 22, 23, 24, 25, 26, 27, 28, 29, 30, 31, 32, 33, 34, 35, 36, 37, 38, 39, 40
1 alternate drawing of the same symbol

## DF17(2.0)-20DP-0.5V(57)
designator X?  value DF17(2.0)-20DP-0.5V(57)
CONN HEADER 20POS .5MM SMD W/FIT; ValueManufacturer: Hirose Electric Co Ltd; PowerVoltage: 0.3A 50V; TechSpec: Шаг 0.5, 0,3A; ValueDescription: DF17(2.0)-20DP-0.5V(57) Двухрядная вилка Hirose Electric Co Ltd  10x5.7mm  Шаг 0.5, 0,3A; ValueType: Connector; Price: 1.7; ComponentLink1Description: Hirose Electric Datasheet; ComponentLink1URL: https://www.hirose.com/product/download/?distributor=digikey&type=2d&lang=en&num=DF17(2.0)-20DP-0.5V(57); Package: 10x5.7mm; ValueManufacturerPartNumber: DF17(2.0)-20DP-0.5V(57); Operating Temperature: -35 to 85 ℃; CheckDate: SC *
footprint DF17(2.0)-20DP-0.5V(57) (CONN HEADER 20POS .5MM SMD W/FIT)
pins: 1, 2, 3, 4, 5, 6, 7, 8, 9, 10, 11, 12, 13, 14, 15, 16, 17, 18, 19, 20
1 alternate drawing of the same symbol

## DF17(2.5)-26DP-0.5V(57)
designator X?  value DF17(2.5)-26DP-0.5V(57)
CONN HDR 26POS .5MM SMD W/FIT; ValueManufacturer: Hirose Electric Co Ltd; PowerVoltage: 50V; TechSpec: Шаг 0.5, 0,3A; ValueDescription: DF17(2.5)-26DP-0.5V(57) Двухрядная вилка Hirose Electric Co Ltd  11.5x5.7mm  Шаг 0.5, 0,3A; ValueType: Connector; Price: 2.23; ComponentLink1Description: Hirose Electric Datasheet; ComponentLink1URL: https://www.hirose.com/product/en/download_file/key_name/DF17/category/Catalog/doc_file_id/49657/?file_category_id=4&item_id=244&is_series=1; Package: 11.5x5.7mm; ValueManufacturerPartNumber: DF17(2.5)-26DP-0.5V(57); Operating Temperature: -35 to 85 ℃; CheckDate: SC *
footprint DF17(2.5)-26DP-0.5V(57) (CONN HDR 26POS .5MM SMD W/FIT)
pins: 1, 2, 3, 4, 5, 6, 7, 8, 9, 10, 11, 12, 13, 14, 15, 16, 17, 18, 19, 20, 21, 22, 23, 24, 25, 26

## DF17(3.0)-20DS-0.5V(57)
designator X?  value DF17(3.0)-20DS-0.5V(57)
CONN RECEPT 20POS .5MM SMD W/FIT; ValueManufacturer: Hirose Electric Co Ltd; PowerVoltage: 50V; TechSpec: Шаг 0.5, 0,3A; ValueDescription: DF17(3.0)-20DS-0.5V(57) Двухрядная розетка Hirose Electric Co Ltd  10x5.7mm  Шаг 0.5, 0,3A; ValueType: Connector; Price: 1.43; ComponentLink1Description: Hirose Electric Datasheet; ComponentLink1URL: https://www.hirose.com/product/en/download_file/key_name/DF17/category/Catalog/doc_file_id/49657/?file_category_id=4&item_id=244&is_series=1; Package: 10x5.7mm; ValueManufacturerPartNumber: DF17(3.0)-20DS-0.5V(57); Operating Temperature: -35 to 85 ℃; CheckDate: SC *
footprint DF17(3.0)-20DS-0.5V(57) (CONN RECEPT 20POS .5MM SMD W/FIT)
pins: 1, 2, 3, 4, 5, 6, 7, 8, 9, 10, 11, 12, 13, 14, 15, 16, 17, 18, 19, 20

## DF17(3.0)-26DS-0.5V(57)
designator X?  value DF17(3.0)-26DS-0.5V(57)
CONN RECEPT 26POS .5MM SMD W/FIT; ValueManufacturer: Hirose Electric Co Ltd; PowerVoltage: 50V; TechSpec: Шаг 0.5, 0,3A; ValueDescription: DF17(3.0)-26DS-0.5V(57) Двухрядная розетка Hirose Electric Co Ltd  11.5x5.7mm  Шаг 0.5, 0,3A; ValueType: Connector; Price: 1.51; ComponentLink1Description: Hirose Electric Datasheet; ComponentLink1URL: https://www.hirose.com/product/en/download_file/key_name/DF17/category/Catalog/doc_file_id/49657/?file_category_id=4&item_id=244&is_series=1; Package: 11.5x5.7mm; ValueManufacturerPartNumber: DF17(3.0)-26DS-0.5V(57); Operating Temperature: -35 to 85 ℃; CheckDate: SC *
footprint DF17(3.0)-26DS-0.5V(57) (CONN RECEPT 26POS .5MM SMD W/FIT)
pins: 1, 2, 3, 4, 5, 6, 7, 8, 9, 10, 11, 12, 13, 14, 15, 16, 17, 18, 19, 20, 21, 22, 23, 24, 25, 26

## DF17(3.0)-40DS-0.5V(57)
designator X?  value DF17(3.0)-40DS-0.5V(57)
CONN RECEPT 40POS .5MM SMD W/FIT; ValueManufacturer: Hirose Electric Co Ltd; PowerVoltage: 50V; TechSpec: Шаг 0.5; ValueDescription: DF17(3.0)-40DS-0.5V(57) Двухрядная розетка Hirose Electric Co Ltd  15.2x4.7mm  Шаг 0.5; ValueType: Connector; Price: 2.53; Package: 15.2x4.7mm; ValueManufacturerPartNumber: DF17(3.0)-40DS-0.5V(57); Operating Temperature: -35 to 85 ℃; CheckDate: SC *; ComponentLink1Description: Hirose Electric Co Ltd Datasheet; ComponentLink1URL: https://www.hirose.com/product/download/?distributor=digikey&type=2d&lang=en&num=DF17(3.0)-40DS-0.5V(57)
footprint DF17(3.0)-40DS-0.5V(57)
pins: 1, 2, 3, 4, 5, 6, 7, 8, 9, 10, 11, 12, 13, 14, 15, 16, 17, 18, 19, 20, 21, 22, 23, 24, 25, 26, 27, 28, 29, 30, 31, 32, 33, 34, 35, 36, 37, 38, 39, 40

## DF17(3.0)-80DS-0.5V(57)
designator X?  value DF17(3.0)-80DS-0.5V(57)
CONN RECEPT 80POS .5MM SMD W/FIT; ValueManufacturer: Hirose Electric Co Ltd; PowerVoltage: 50V; TechSpec: Шаг 0.5; ValueDescription: DF17(3.0)-80DS-0.5V(57) Двухрядная розетка Hirose Electric Co Ltd  25.2x4.7mm  Шаг 0.5; ValueType: Connector; Price: 2.67; Package: 25.2x4.7mm; ValueManufacturerPartNumber: DF17(3.0)-80DS-0.5V(57); Operating Temperature: -35 to 85 ℃; CheckDate: SC *; ComponentLink1Description: Hirose Electric Co Ltd Datasheet; ComponentLink1URL: https://www.hirose.com/product/download/?distributor=digikey&type=2d&lang=en&num=DF17(3.0)-80DS-0.5V(57)
footprint DF17(3.0)-80DS-0.5V(57)
pins: 1, 2, 3, 4, 5, 6, 7, 8, 9, 10, 11, 12, 13, 14, 15, 16, 17, 18, 19, 20, 21, 22, 23, 24, 25, 26, 27, 28, 29, 30, 31, 32, 33, 34, 35, 36, 37, 38, 39, 40, 41, 42, 43, 44, 45, 46, 47, 48, 49, 50, 51, 52, 53, 54, 55, 56, 57, 58, 59, 60, 61, 62, 63, 64, 65, 66, 67, 68, 69, 70, 71, 72, 73, 74, 75, 76, 77, 78, 79, 80

## DF17(4.0)-40DP-0.5V(57)
designator X?  value DF17(4.0)-40DP-0.5V(57)
CONN HEADER 40POS .5MM SMD W/FIT; ValueManufacturer: Hirose Electric Co Ltd; PowerVoltage: 50V; TechSpec: Шаг 0.5; ValueDescription: DF17(4.0)-40DP-0.5V(57) Двухрядная вилка Hirose Electric Co Ltd  15.2x4.7mm  Шаг 0.5; ValueType: Connector; Price: 2.81; Package: 15.2x4.7mm; ValueManufacturerPartNumber: DF17(4.0)-40DP-0.5V(57); Operating Temperature: -35 to 85 ℃; CheckDate: SC *; ComponentLink1Description: Hirose Electric Co Ltd Datasheet; ComponentLink1URL: https://www.hirose.com/product/download/?distributor=digikey&type=2d&lang=en&num=DF17(3.0)-40DS-0.5V(57)
footprint DF17(4.0)-40DP-0.5V(57)
pins: 1, 2, 3, 4, 5, 6, 7, 8, 9, 10, 11, 12, 13, 14, 15, 16, 17, 18, 19, 20, 21, 22, 23, 24, 25, 26, 27, 28, 29, 30, 31, 32, 33, 34, 35, 36, 37, 38, 39, 40

## DF17(4.0)-70DP-0.5V(57)
designator X?  value DF17(4.0)-70DP-0.5V(57)
CONN HEADER 70POS .5MM SMD W/FIT; ValueManufacturer: Hirose Electric Co Ltd; PowerVoltage: 50V; TechSpec: Шаг 0.5; ValueDescription: DF17(4.0)-70DP-0.5V(57) Двухрядная вилка Hirose Electric Co Ltd  22.5x4.7mm  Шаг 0.5; ValueType: Connector; Price: 2.53; ComponentLink1Description: Hirose Electric Datasheet; ComponentLink1URL: https://www.hirose.com/product/en/download_file/key_name/DF17/category/Catalog/doc_file_id/49657/?file_category_id=4&item_id=244&is_series=1; Package: 22.5x4.7mm; ValueManufacturerPartNumber: DF17(4.0)-70DP-0.5V(57); Operating Temperature: -35 to 85 ℃; CheckDate: SC *
footprint DF17(4.0)-70DP-0.5V(57)
pins: 1, 2, 3, 4, 5, 6, 7, 8, 9, 10, 11, 12, 13, 14, 15, 16, 17, 18, 19, 20, 21, 22, 23, 24, 25, 26, 27, 28, 29, 30, 31, 32, 33, 34, 35, 36, 37, 38, 39, 40, 41, 42, 43, 44, 45, 46, 47, 48, 49, 50, 51, 52, 53, 54, 55, 56, 57, 58, 59, 60, 61, 62, 63, 64, 65, 66, 67, 68, 69, 70

## DF17(4.0)-70DS-0.5V(57)
designator X?  value DF17(4.0)-70DS-0.5V(57)
CONN RECEPT 70POS .5MM SMD W/FIT; ValueManufacturer: Hirose Electric Co Ltd; PowerVoltage: 50V; TechSpec: Шаг 0.5; ValueDescription: DF17(4.0)-70DS-0.5V(57) Двухрядная розетка Hirose Electric Co Ltd  22.5x4.7mm  Шаг 0.5; ValueType: Connector; Price: 2.53; ComponentLink1Description: Hirose Electric Datasheet; ComponentLink1URL: https://www.hirose.com/product/en/download_file/key_name/DF17/category/Catalog/doc_file_id/49657/?file_category_id=4&item_id=244&is_series=1; Package: 22.5x4.7mm; ValueManufacturerPartNumber: DF17(4.0)-70DS-0.5V(57); Operating Temperature: -35 to 85 ℃; CheckDate: SC *
footprint DF17(4.0)-70DS-0.5V(57)
pins: 1, 2, 3, 4, 5, 6, 7, 8, 9, 10, 11, 12, 13, 14, 15, 16, 17, 18, 19, 20, 21, 22, 23, 24, 25, 26, 27, 28, 29, 30, 31, 32, 33, 34, 35, 36, 37, 38, 39, 40, 41, 42, 43, 44, 45, 46, 47, 48, 49, 50, 51, 52, 53, 54, 55, 56, 57, 58, 59, 60, 61, 62, 63, 64, 65, 66, 67, 68, 69, 70

## DF17(4.0)-80DP-0.5V(57)
designator X?  value DF17(4.0)-80DP-0.5V(57)
CONN HEADER 80POS .5MM SMD W/FIT; ValueManufacturer: Hirose Electric Co Ltd; PowerVoltage: 50V; TechSpec: Шаг 0.5; ValueDescription: DF17(4.0)-80DP-0.5V(57) Двухрядная вилка Hirose Electric Co Ltd  25.2x4.7mm  Шаг 0.5; ValueType: Connector; Price: 5.34; Package: 25.2x4.7mm; ValueManufacturerPartNumber: DF17(4.0)-80DP-0.5V(57); Operating Temperature: -35 to 85 ℃; CheckDate: SC *; ComponentLink1Description: Hirose Electric Co Ltd Datasheet; ComponentLink1URL: https://www.hirose.com/product/download/?distributor=digikey&type=2d&lang=en&num=DF17(4.0)-80DP-0.5V(57)
footprint DF17(4.0)-80DP-0.5V(57)
pins: 1, 2, 3, 4, 5, 6, 7, 8, 9, 10, 11, 12, 13, 14, 15, 16, 17, 18, 19, 20, 21, 22, 23, 24, 25, 26, 27, 28, 29, 30, 31, 32, 33, 34, 35, 36, 37, 38, 39, 40, 41, 42, 43, 44, 45, 46, 47, 48, 49, 50, 51, 52, 53, 54, 55, 56, 57, 58, 59, 60, 61, 62, 63, 64, 65, 66, 67, 68, 69, 70, 71, 72, 73, 74, 75, 76, 77, 78, 79, 80

## DM3BT-DSF-PEJS
designator X?  value DM3BT-DSF-PEJS
CONN MICRO SD CARD PUSH-PUSH R/A; ValueManufacturer: Hirose Electric Co Ltd Connectors; ValueDescription: DM3BT-DSF-PEJS microSD разъем Hirose Electric Co Ltd Connectors  15x13.75  microSD; ValueType: Connector; Price: 2.47; ComponentLink1Description: Hirose Electric Datasheet; ComponentLink1URL: https://www.hirose.com/product/en/download_file/key_name/DM3/category/Catalog/doc_file_id/49662/?file_category_id=4&item_id=195&is_series=1; Package: 15x13.75; TechSpec: microSD; ValueManufacturerPartNumber: DM3BT-DSF-PEJS; CheckDate: SC *
footprint DM3BT-DSF-PEJS (microSD)
pins: 1 DAT2, 2 CD/DAT3, 3 CMD, 4 VDD (power), 5 CLOCK, 6 VSS (power), 7 DAT0, 8 DAT1, 9 GND (power), 10 CD, 11 GND (power), 12 GND (power), 13 GND, 14 GND

## HDMI-2013978-1
designator X?  value 2013978-1
HDMI CONN RECPT PCB 19POS; ValueManufacturer: TE Connectivity AMP Connectors; PowerVoltage: 40VAC; TechSpec: Шаг 0.4, 0,5A; ValueDescription: 2013978-1 Разъем HDMI TE Connectivity AMP Connectors  12.9x7.7mm  Шаг 0.4, 0,5A; ValueType: HDMI Connectors; Price: 3.15; ComponentLink1Description: TE Connectivity AMP Connectors  Datasheet; ComponentLink1URL: http://www.te.com/commerce/DocumentDelivery/DDEController?Action=srchrtrv&DocNm=2013978&DocType=Customer+Drawing&DocLang=English; Package: 12.9x7.7mm; ValueManufacturerPartNumber: 2013978-1; Operating Temperature: -25°C ~ 70°C; CheckDate: SC *
footprint HDMI-2013978-1 (CONN RECPT PCB 19POS)
pins: 1, 2, 3, 4, 5, 6, 7, 8, 9, 10, 11, 12, 13, 14, 15, 16, 17, 18, 19, Shd

## HDMI-0467651301
designator X?  value 0467651301
HDMI MICRO TH RCPT PCB 19POS; ValueManufacturer: Molex LLC; PowerVoltage: 30V; ValueDescription: 0467651301 Разъем HDMI Molex LLC  7.5x6.5mm; ValueType: HDMI Connectors; Price: 1.94; ComponentLink1Description: Molex LLC  Datasheet; ComponentLink1URL: https://www.molex.com/pdm_docs/sd/467651301_sd.pdf; Package: 7.5x6.5mm; ValueManufacturerPartNumber: 0467651301; Operating Temperature: -30°C ~ 85°C; CheckDate: SC *
footprint HDMI-0467651301 (HDMI MICRO TH RCPT PCB 19POS)
pins: 1, 2, 3, 4, 5, 6, 7, 8, 9, 10, 11, 12, 13, 14, 15, 16, 17, 18, 19, Shd

## HDMI-0476591000
designator X?  value 0476591000
HDMI REC.VERTICAL SMT TYPE; ValueManufacturer: Molex LLC; PowerVoltage: 40VDC; ValueDescription: 0476591000 Разъем HDMI Molex LLC  15x6.7mm; ValueType: HDMI Connectors; Price: 3.07; ComponentLink1Description: Molex LLC  Datasheet; ComponentLink1URL: https://www.molex.com/pdm_docs/sd/476591000_sd.pdf; Package: 15x6.7mm; Operating Temperature: -20°C ~ 85°C; CheckDate: SC *; ValueManufacturerPartNumber: 0476591000
footprint HDMI-0476591000 (HDMI REC.VERTICAL SMT TYPE)
pins: 1, 2, 3, 4, 5, 6, 7, 8, 9, 10, 11, 12, 13, 14, 15, 16, 17, 18, 19, Shd

## I-PEX 20347-325E-12R
designator X?  value 20347-325E-12R
Micro-Coax connectors Receptacle 25 pos; ValueManufacturer: daiichi-seiko.co.jp; TechSpec: Шаг 0.4; ValueDescription: 20347-325E-12R Розетка daiichi-seiko.co.jp  14.8x4.2х1mm  Шаг 0.4; ComponentLink1Description: DAI-ICHI SEIKO Datasheet; ComponentLink1URL: https://www.i-pex.com/img/products/matrix_Micro-Coax_CABLINE_FPL.pdf; Package: 14.8x4.2х1mm; ValueManufacturerPartNumber: 20347-325E-12R; ValueType: Micro-Coax Connector; CheckDate: SC *; ComponentLink2Description: I-PEX CONNECTORS Datasheet; ComponentLink2URL: https://www.i-pex.com/Products/detail/83
footprint I-PEX 20347-325E-12R (CONN RECPT PCB 25POS 14.4х4.2х1)
pins: 1, 2, 3, 4, 5, 6, 7, 8, 9, 10, 11, 12, 13, 14, 15, 16, 17, 18, 19, 20, 21, 22, 23, 24, 25

## KMR231GLFS
designator X?  value KMR231GLFS
SWITCH TACTILE SPST-NO 0.05A 32V SMD; ValueManufacturer: C&K; ValueDescription: KMR231GLFS Кнопка C&K  4.60mm x 2.80mm; ValueType: swich; Price: 0.54; ComponentLink1Description: C&K Datasheet; ComponentLink1URL: http://www.ckswitches.com/media/1479/kmr2.pdf; Package: 4.60mm x 2.80mm; ValueManufacturerPartNumber: KMR231GLFS; CheckDate: SC *
footprint KMR231GLFS
pins: 1 A1, 2 A2, 3 A3, 4 (power)

## M50-3120545
designator X?  value M50-3120545
CONN RCPT 10PS SMD 1.27MM; ValueManufacturer: Harwin; PowerVoltage: 1A; TechSpec: Шаг 1.27; Tolerance: Высота 3.6мм; ValueDescription: M50-3120545 Двухрядная розетка Harwin  7х6.7mm  Шаг 1.27; ValueType: Connector; Price: 1.86; ComponentLink1Description: Harwin Datasheet; ComponentLink1URL: https://cdn.harwin.com/pdfs/M50-312.pdf; Package: 7х6.7mm; ValueManufacturerPartNumber: M50-3120545; Operating Temperature: -40°C~105°C; CheckDate: SC 14.11.17
footprint M50-3120545
pins: 1, 2, 3, 4, 5, 6, 7, 8, 9, 10

## M50-3120645
designator X?  value M50-3120645
CONN RCPT 12PS SMD 1.27MM; ValueManufacturer: Harwin; PowerVoltage: 1A; TechSpec: Шаг 1.27; Tolerance: Высота 3.6мм; ValueDescription: M50-3120645 Двухрядная розетка Harwin  7х7.9mm  Шаг 1.27; ValueType: Connector; Price: 2.03; ComponentLink1Description: Harwin Datasheet; ComponentLink1URL: https://cdn.harwin.com/pdfs/M50-312.pdf; Package: 7х7.9mm; ValueManufacturerPartNumber: M50-3120645; Operating Temperature: -40°C~105°C; CheckDate: SC 14.11.17
footprint M50-3120645
pins: 1, 2, 3, 4, 5, 6, 7, 8, 9, 10, 11, 12

## M50-3120745
designator X?  value M50-3120745
CONN RCPT 14PS SMD 1.27MM; ValueManufacturer: Harwin; PowerVoltage: 1A; TechSpec: Шаг 1.27; Tolerance: Высота 3.6мм; ValueDescription: M50-3120745 Двухрядная розетка Harwin  7х9.2mm  Шаг 1.27; ValueType: Connector; Price: 1.3; ComponentLink1Description: Harwin Datasheet; ComponentLink1URL: https://cdn.harwin.com/pdfs/M50-312.pdf; Package: 7х9.2mm; ValueManufacturerPartNumber: M50-3120745; Operating Temperature: -40°C~105°C; CheckDate: SC 14.11.17
footprint M50-3120745
pins: 1, 2, 3, 4, 5, 6, 7, 8, 9, 10, 11, 12, 13, 14

## M50-3121245
designator X?  value M50-3121245
CONN RCPT 24PS SMD 1.27MM; ValueManufacturer: Harwin; PowerVoltage: 1A; TechSpec: Шаг 1.27; Tolerance: Высота 3.6мм; ValueDescription: M50-3121245 Двухрядная розетка Harwin  7х14.25mm  Шаг 1.27; ValueType: Connector; Price: 3.43; ComponentLink1Description: Harwin Datasheet; ComponentLink1URL: https://cdn.harwin.com/pdfs/M50-312.pdf; Package: 7х14.25mm; ValueManufacturerPartNumber: M50-3121245; Operating Temperature: -40°C~105°C; CheckDate: SC 14.11.17
footprint M50-3121245
pins: 1, 2, 3, 4, 5, 6, 7, 8, 9, 10, 11, 12, 13, 14, 15, 16, 17, 18, 19, 20, 21, 22, 23, 24

## M50-3121445
designator X?  value M50-3121445
CONN RCPT 28PS SMD 1.27MM; ValueManufacturer: Harwin; PowerVoltage: 1A; TechSpec: Шаг 1.27; Tolerance: Высота 3.6мм; ValueDescription: M50-3121445 Двухрядная розетка Harwin  7х17.8mm  Шаг 1.27; ValueType: Connector; Price: 3.43; ComponentLink1Description: Harwin Datasheet; ComponentLink1URL: https://cdn.harwin.com/pdfs/M50-312.pdf; Package: 7х17.8mm; ValueManufacturerPartNumber: M50-3121445; Operating Temperature: -40°C~105°C; CheckDate: SC 14.11.17
footprint M50-3121445
pins: 1, 2, 3, 4, 5, 6, 7, 8, 9, 10, 11, 12, 13, 14, 15, 16, 17, 18, 19, 20, 21, 22, 23, 24, 25, 26, 27, 28

## M50-3121845
designator X?  value M50-3121845
CONN RCPT 36PS SMD 1.27MM; ValueManufacturer: Harwin; PowerVoltage: 1A; TechSpec: Шаг 1.27; Tolerance: Высота 3.6мм; ValueDescription: M50-3121845 Двухрядная розетка Harwin  7х22.8mm  Шаг 1.27; ValueType: Connector; Price: 2.6; ComponentLink1Description: Harwin Datasheet; ComponentLink1URL: https://cdn.harwin.com/pdfs/M50-312.pdf; Package: 7х22.8mm; ValueManufacturerPartNumber: M50-3121845; Operating Temperature: -40°C~105°C; CheckDate: SC 14.11.17
footprint M50-3121845
pins: 1, 2, 3, 4, 5, 6, 7, 8, 9, 10, 11, 12, 13, 14, 15, 16, 17, 18, 19, 20, 21, 22, 23, 24, 25, 26, 27, 28, 29, 30, 31, 32, 33, 34, 35, 36

## M50-3500642
designator X?  value M50-3600642
CONN HEADER 12PS TH 1.27MM; ValueManufacturer: Harwin Inc; ValueManufacturerPartNumber: M50-3601242; PowerVoltage: 1A; TechSpec: Шаг 1.27мм; Tolerance: Высотв 4.68мм; ValueDescription: M50-3600642 Двухрядная вилка Harwin Inc  7х7.6mm  Шаг 1.27мм; ValueType: Connector; Price: 1.4; ComponentLink1Description: Harwin Datasheet; ComponentLink1URL: https://cdn.harwin.com/pdfs/M50-360.pdf; Package: 7х7.6mm; Operating Temperature: -40°C~105°C; CheckDate: SC 14.11.17
footprint M50-3500642
pins: 1, 2, 3, 4, 5, 6, 7, 8, 9, 10, 11, 12

## M50-3500742
designator X?  value M50-3600642
CONN HEADER 14PS TH 1.27MM; ValueManufacturer: Harwin Inc; ValueManufacturerPartNumber: M50-3601242; PowerVoltage: 1A; TechSpec: Шаг 1.27мм; Tolerance: Высотв 4.68мм; ValueDescription: M50-3600642 Двухрядная вилка Harwin Inc  7х8.8mm  Шаг 1.27мм; ValueType: Connector; Price: 1.47; ComponentLink1Description: Harwin Datasheet; ComponentLink1URL: https://cdn.harwin.com/pdfs/M50-360.pdf; Package: 7х8.8mm; Operating Temperature: -40°C~105°C; CheckDate: SC 14.11.17
footprint M50-3500742
pins: 1, 2, 3, 4, 5, 6, 7, 8, 9, 10, 11, 12, 13, 14

## M50-3600542
designator X?  value M50-3600542
CONN HEADER 10PS SMD 1.27MM; ValueManufacturer: Harwin Inc; ValueManufacturerPartNumber: M50-3601242; PowerVoltage: 1A; TechSpec: Шаг 1.27мм; Tolerance: Высотв 4.68мм; ValueDescription: M50-3600542 Двухрядная вилка Harwin Inc  7х6.7mm  Шаг 1.27мм; ValueType: Connector; Price: 2.57; ComponentLink1Description: Harwin Datasheet; ComponentLink1URL: https://cdn.harwin.com/pdfs/M50-360.pdf; Package: 7х6.7mm; Operating Temperature: -40°C~105°C; CheckDate: SC 14.11.17
footprint M50-3600542
pins: 1, 2, 3, 4, 5, 6, 7, 8, 9, 10

## M50-3600642
designator X?  value M50-3600642
CONN HEADER 12PS SMD 1.27MM; ValueManufacturer: Harwin Inc; ValueManufacturerPartNumber: M50-3601242; PowerVoltage: 1A; TechSpec: Шаг 1.27мм; Tolerance: Высотв 4.68мм; ValueDescription: M50-3600642 Двухрядная вилка Harwin Inc  7х7.6mm  Шаг 1.27мм; ValueType: Connector; Price: 1.4; ComponentLink1Description: Harwin Datasheet; ComponentLink1URL: https://cdn.harwin.com/pdfs/M50-360.pdf; Package: 7х7.6mm; Operating Temperature: -40°C~105°C; CheckDate: SC 14.11.17
footprint M50-3600642
pins: 1, 2, 3, 4, 5, 6, 7, 8, 9, 10, 11, 12

## M50-3600742
designator X?  value M50-3600742
CONN HEADER 14PS SMD 1.27MM; ValueManufacturer: Harwin Inc; ValueManufacturerPartNumber: M50-3601242; PowerVoltage: 1A; TechSpec: Шаг 1.27мм; Tolerance: Высотв 4.68мм; ValueDescription: M50-3600742 Двухрядная вилка Harwin Inc  7х8.8mm  Шаг 1.27мм; ValueType: Connector; Price: 1.47; ComponentLink1Description: Harwin Datasheet; ComponentLink1URL: https://cdn.harwin.com/pdfs/M50-360.pdf; Package: 7х8.8mm; Operating Temperature: -40°C~105°C; CheckDate: SC 14.11.17
footprint M50-3600742
pins: 1, 2, 3, 4, 5, 6, 7, 8, 9, 10, 11, 12, 13, 14

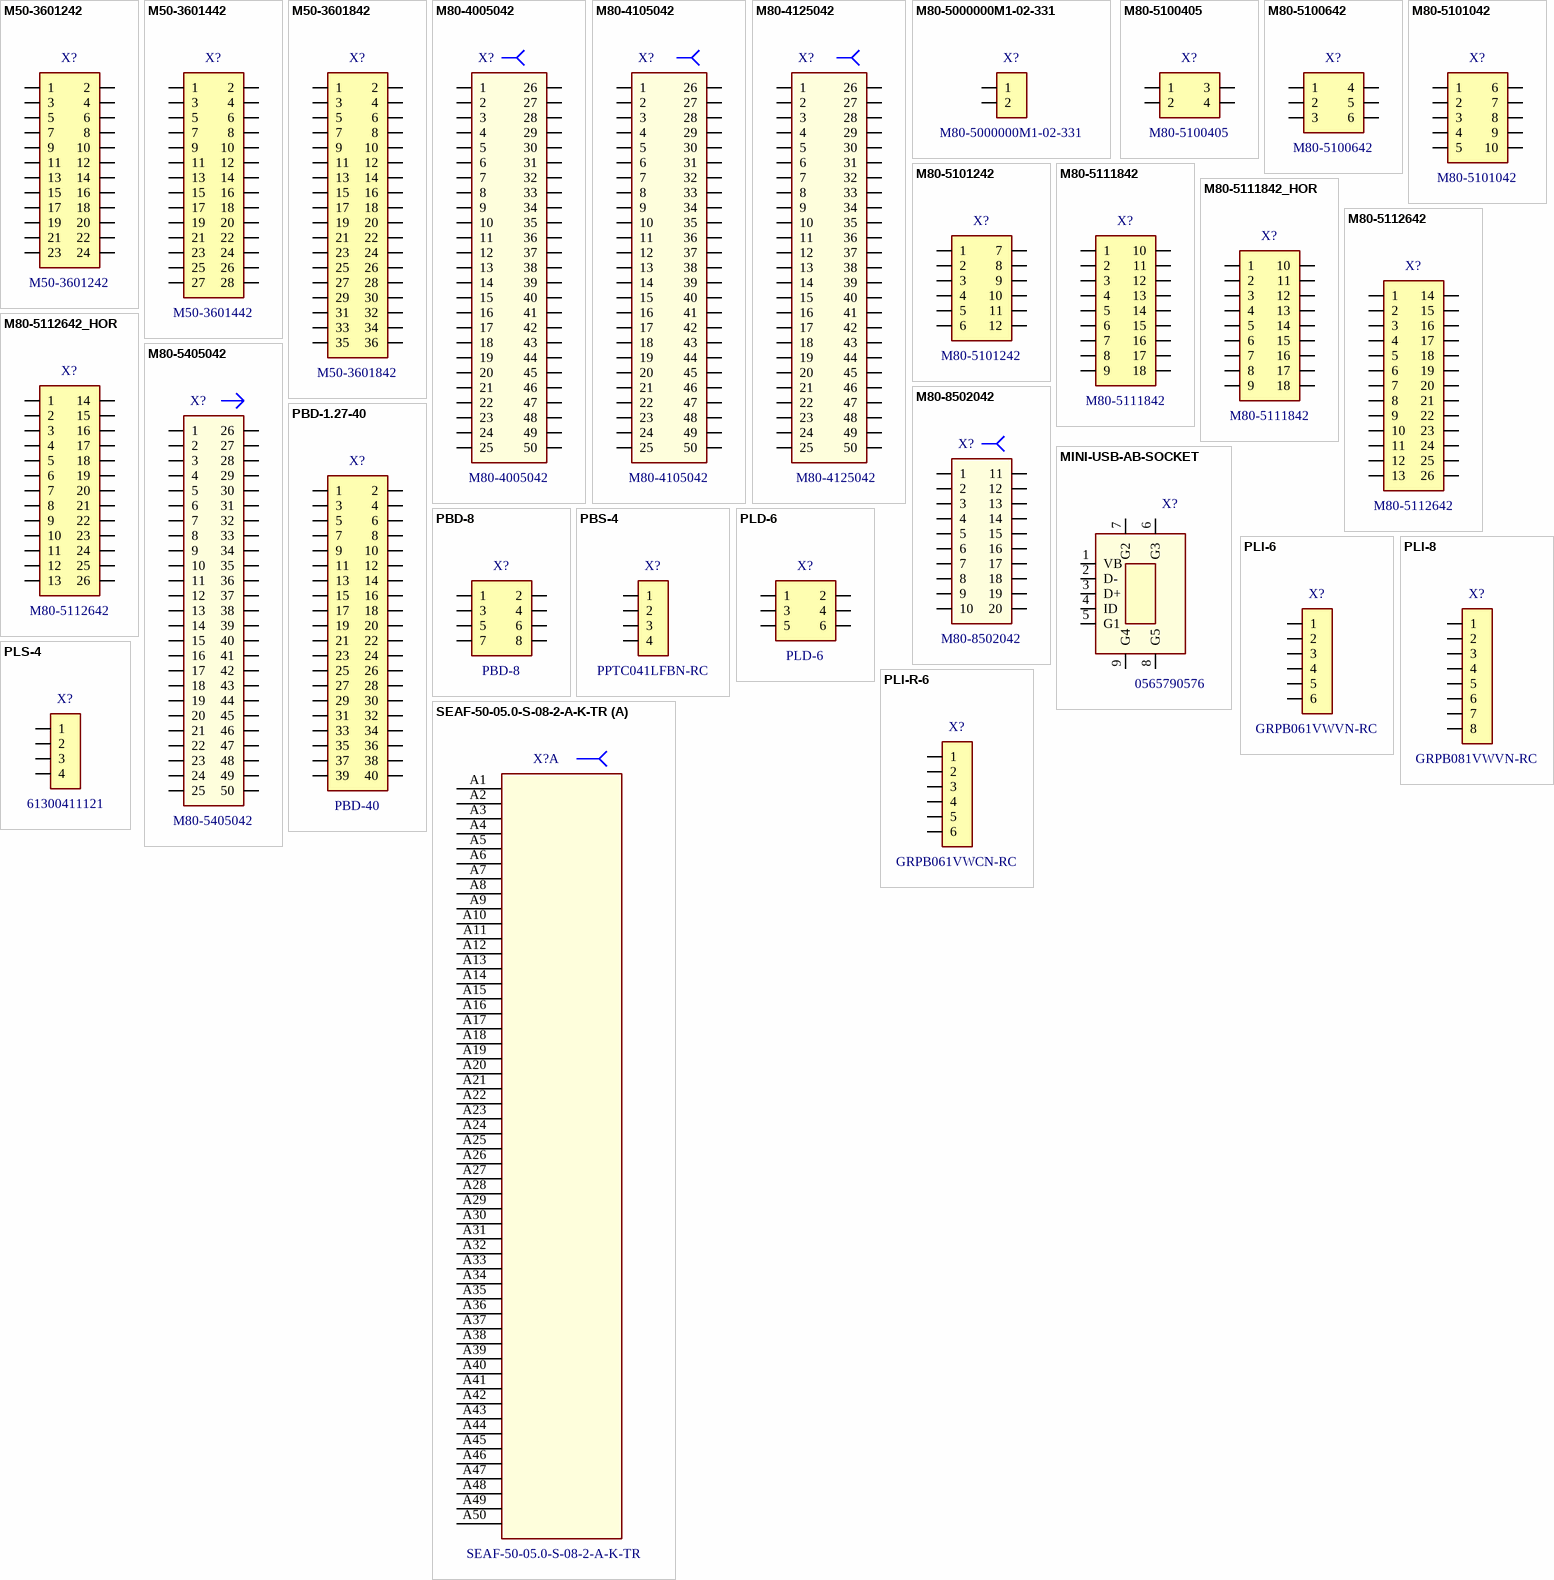
[diagram p2: symbols M50-3601242 to SEAF-50-05.0-S-08-2-A-K-TR]

## M50-3601242
designator X?  value M50-3601242
CONN HEADER 24PS SMD 1.27MM; ValueManufacturer: Harwin Inc; PowerVoltage: 1A; TechSpec: Шаг 1.27мм; Tolerance: Высотв 4.68мм; ValueDescription: M50-3601242 Двухрядная вилка Harwin Inc  7х14.25mm  Шаг 1.27мм; ValueType: Connector; Price: 2.57; ComponentLink1Description: Harwin Datasheet; ComponentLink1URL: https://cdn.harwin.com/pdfs/M50-360.pdf; Package: 7х14.25mm; ValueManufacturerPartNumber: M50-3601242; Operating Temperature: -40°C~105°C; CheckDate: SC 14.11.17
footprint M50-3601242
pins: 1, 2, 3, 4, 5, 6, 7, 8, 9, 10, 11, 12, 13, 14, 15, 16, 17, 18, 19, 20, 21, 22, 23, 24

## M50-3601442
designator X?  value M50-3601442
CONN HEADER 28PS SMD 1.27MM; ValueManufacturer: Harwin Inc; PowerVoltage: 1A; TechSpec: Шаг 1.27мм; Tolerance: Высотв 4.68мм; ValueDescription: M50-3601442 Двухрядная вилка Harwin Inc  7х17.8mm  Шаг 1.27мм; ValueType: Connector; Price: 3.2; ComponentLink1Description: Harwin Datasheet; ComponentLink1URL: https://cdn.harwin.com/pdfs/M50-360.pdf; Package: 7х17.8mm; ValueManufacturerPartNumber: M50-3601442; Operating Temperature: -40°C~105°C; CheckDate: SC 14.11.17
footprint M50-3601442
pins: 1, 2, 3, 4, 5, 6, 7, 8, 9, 10, 11, 12, 13, 14, 15, 16, 17, 18, 19, 20, 21, 22, 23, 24, 25, 26, 27, 28

## M50-3601842
designator X?  value M50-3601842
CONN HEADER 36PS SMD 1.27MM; ValueManufacturer: Harwin Inc; PowerVoltage: 1A; TechSpec: Шаг 1.27мм; Tolerance: Высотв 4.68мм; ValueDescription: M50-3601842 Двухрядная вилка Harwin Inc  7х22.8mm  Шаг 1.27мм; ValueType: Connector; Price: 3.6; ComponentLink1Description: Harwin Datasheet; ComponentLink1URL: https://cdn.harwin.com/pdfs/M50-360.pdf; Package: 7х22.8mm; ValueManufacturerPartNumber: M50-3601842; Operating Temperature: -40°C~105°C; CheckDate: SC 14.11.17
footprint M50-3601842
pins: 1, 2, 3, 4, 5, 6, 7, 8, 9, 10, 11, 12, 13, 14, 15, 16, 17, 18, 19, 20, 21, 22, 23, 24, 25, 26, 27, 28, 29, 30, 31, 32, 33, 34, 35, 36

## M80-4005042
designator X?  value M80-4005042
25+25 WAY FEMALE PC TAIL 3MM; ValueManufacturer: Harwin Inc.; PowerVoltage: 120V; TechSpec: 3A; ValueDescription: M80-4005042 Розетка Harwin Inc.  5.55x60mm  3A; ValueType: Female Socket; Price: 18.94; ComponentLink1Description: Harwin Datasheet; ComponentLink1URL: https://cdn.harwin.com/pdfs/M80-400.pdf; Package: 5.55x60mm; Operating Temperature: -55°C~125°C; CheckDate: SC *; ValueManufacturerPartNumber: M80-4005042
footprint M80-4005042 (25+25 WAY FEMALE PC TAIL 3MM)
pins: 1, 2, 3, 4, 5, 6, 7, 8, 9, 10, 11, 12, 13, 14, 15, 16, 17, 18, 19, 20, 21, 22, 23, 24, 25, 26, 27, 28, 29, 30, 31, 32, 33, 34, 35, 36, 37, 38, 39, 40, 41, 42, 43, 44, 45, 46, 47, 48, 49, 50

## M80-4105042
designator X?  value M80-4105042
DIL FEMALE VERT PC TAIL CONN; ValueManufacturer: Harwin Inc.; PowerVoltage: 120V; TechSpec: 3A; ValueDescription: M80-4105042 Розетка Harwin Inc.  5.55x60mm  3A; ValueType: Female Socket; Price: 14.41; ComponentLink1Description: Harwin Datasheet; ComponentLink1URL: https://cdn.harwin.com/pdfs/M80-410.pdf; Package: 5.55x60mm; Operating Temperature: -55°C~125°C; CheckDate: SC *; ValueManufacturerPartNumber: M80-4105042
footprint M80-4105042 (DIL FEMALE VERT PC TAIL CONN)
pins: 1, 2, 3, 4, 5, 6, 7, 8, 9, 10, 11, 12, 13, 14, 15, 16, 17, 18, 19, 20, 21, 22, 23, 24, 25, 26, 27, 28, 29, 30, 31, 32, 33, 34, 35, 36, 37, 38, 39, 40, 41, 42, 43, 44, 45, 46, 47, 48, 49, 50

## M80-4125042
designator X?  value M80-4125042
25+25 WAY FEMALE SMT + WO J/S; ValueManufacturer: Harwin Inc.; PowerVoltage: 120V; TechSpec: 3A; ValueDescription: M80-4125042 Розетка Harwin Inc.  7.5x60mm  3A; ValueType: Female Socket; Price: 19.04; ComponentLink1Description: Harwin Datasheet; ComponentLink1URL: https://cdn.harwin.com/pdfs/M80-412.pdf; Package: 7.5x60mm; Operating Temperature: -55°C~125°C; CheckDate: SC *; ValueManufacturerPartNumber: M80-4125042
footprint M80-4125042 (25+25 WAY FEMALE SMT + WO J/S)
pins: 1, 2, 3, 4, 5, 6, 7, 8, 9, 10, 11, 12, 13, 14, 15, 16, 17, 18, 19, 20, 21, 22, 23, 24, 25, 26, 27, 28, 29, 30, 31, 32, 33, 34, 35, 36, 37, 38, 39, 40, 41, 42, 43, 44, 45, 46, 47, 48, 49, 50